# Altium footprint library PCB1.PcbLib: 18 footprints (part 2 of 2)
Each footprint in its own frame and in the unit in brackets; x right, y up, seen from the top. Pads: shape width x height; smd on the part's side, far side on the other; paste and mask are expansions set on the pad; w line width, h text height; cw(c..) or ccw(c..) is an arc to the next point about the centre after c.
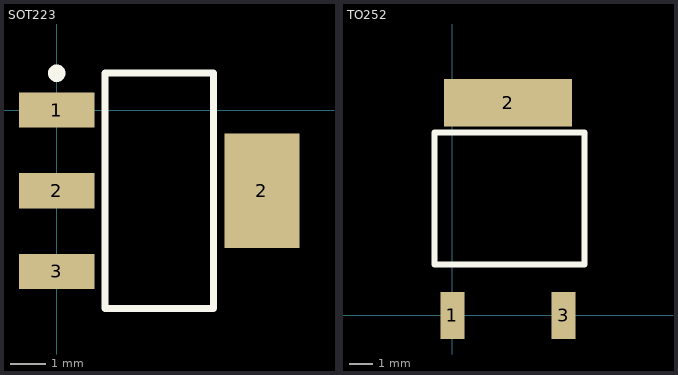
[diagram p1: the footprints below, top view; thin cyan lines are the x and y axes]

## SOT223 [mm]
pads (4):
  rect 2.15x1 smd: 1(0,0) 2(0,-2.3) 3(0,-4.6)
  rect 2.15x3.25 smd: 2(5.85,-2.3)
Top Overlay:
  circle w0.25: c0,1.05 r0.125
  lines w0.2: 1.375,-5.65 4.475,-5.65 4.475,1.05 1.375,1.05 1.375,-5.65
3D body "CircuitWorks-SOT-223.STEP": height 1.7, standoff 0.02, extent -0.559,-5.536 6.401,0.964

## TO252 [mm]
pads (3):
  rect 1x2 smd: 1(0,0) 3(4.7,0)
  rect 5.4x2 smd: 2(2.35,9)
Top Overlay:
  lines w0.254: -0.762,2.159 5.588,2.159 5.588,7.747 -0.762,7.747 -0.762,2.159
3D body "CircuitWorks-TO-252.STEP": height 2.4, standoff 0.1, extent -0.877,-0.393 5.703,9.307